# Altium schematic symbol library ESD5Z6.0T1G.SchLib: 1 symbol
Pins are listed as number, name and electrical type; pins without a type are passive.

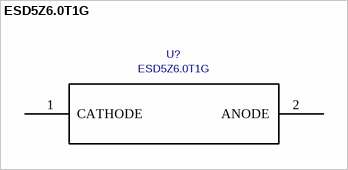
[diagram p0: symbol ESD5Z6.0T1G]

## ESD5Z6.0T1G
designator U?
Mfr_Name: onsemi; C: Copyright (C) 2018 Accelerated Designs. All rights reserved; Value: ESD5Z6.0T1G; Copyright: Copyright (C) 2022 Ultra Librarian. All rights reserved.; Manufacturer_Part_Number: ESD5Z6.0T1G; Digi-Key_Part_Number_1: 2156-ESD5Z6.0T1G-OS-ND; Digi-Key_Part_Number_2: ESD5Z6.0T1GOSTR-ND; Digi-Key_Part_Number_3: ESD5Z6.0T1GOSCT-ND; Digi-Key_Part_Number_4: ESD5Z6.0T1GOSDKR-ND
footprint SOD-523_0P9X1P3_
pins: 1 CATHODE, 2 ANODE